# Altium schematic symbol library ARCOM_OpAmp.SchLib: 22 symbols
Pins are listed as number, name and electrical type; pins without a type are passive.

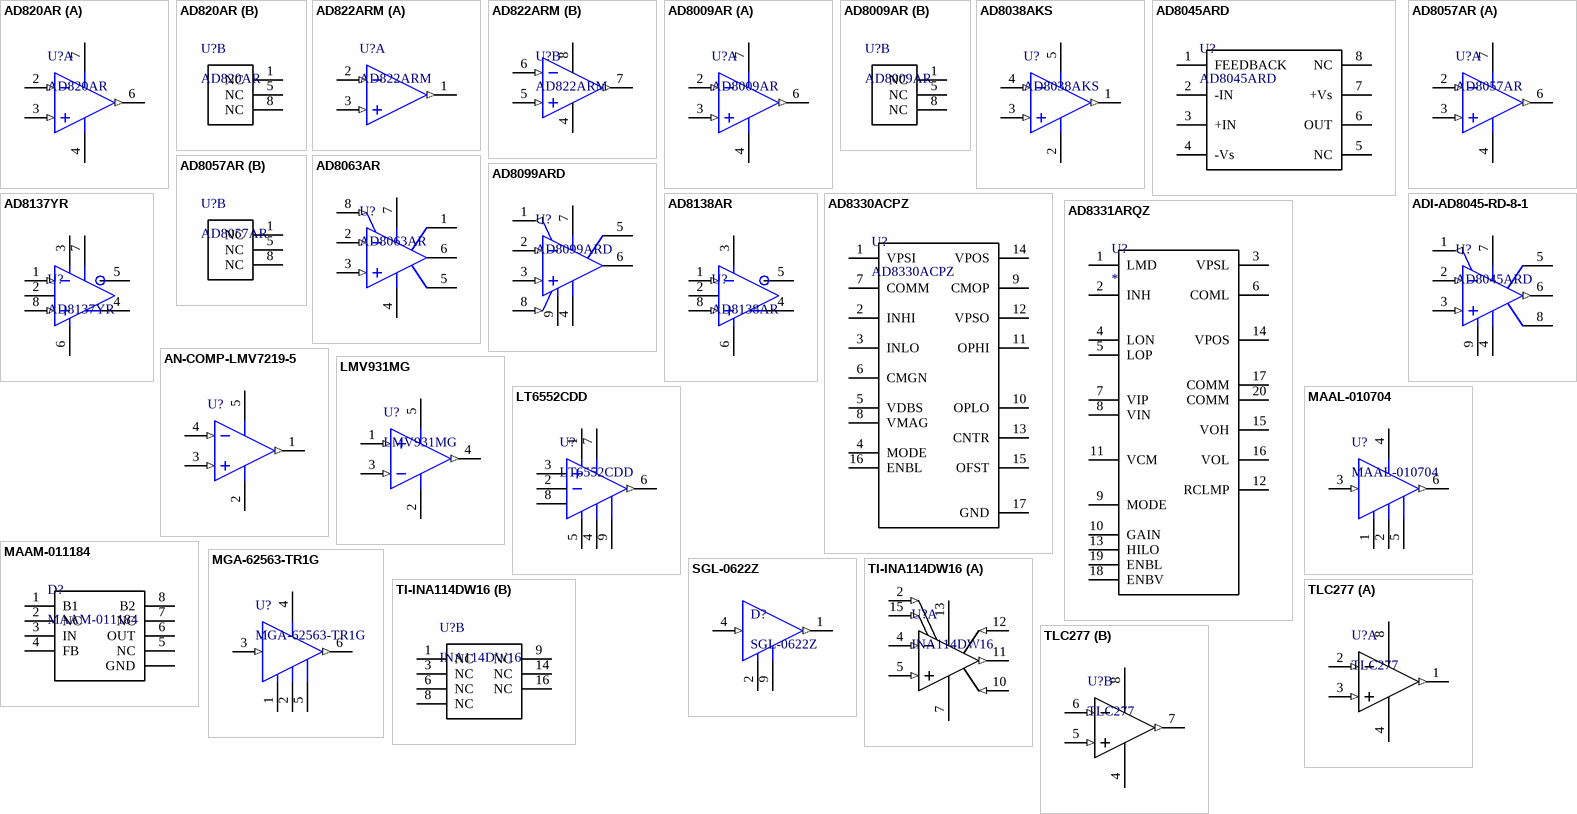
[diagram p0: symbols AD820AR to TLC277]

## AD820AR
designator U?
Single-Supply, Rail-to-Rail, Low Power, FET Input Op Amp; Manufacturer: Analog Devices; ComponentLink1Description: Manufacturer; ComponentLink1URL: http://www.analog.com/; ComponentLink2Description: Datasheet; ComponentLink2URL: http://www.analog.com/media/en/technical-documentation/data-sheets/AD820.pdf; Manufacturer P/N: AD820AR; Part: AD820AR
footprint SOIC_8_1.27_L (SOIC, 8-Leads, Body 4.89x3.9mm, Pitch 1.27mm, IPC High Density)
footprint SOIC_8_1.27_M (SOIC, 8-Leads, Body 4.89x3.9mm, Pitch 1.27mm, IPC Low Density)
footprint SOIC_8_1.27_N (SOIC, 8-Leads, Body 4.89x3.9mm, Pitch 1.27mm, IPC Medium Density)
part A pins: 2 -IN (in), 3 +IN (in), 4 -VS (power), 6 VOUT (out), 7 +VS (power)
part B pins: 1 NC, 5 NC, 8 NC

## AD822ARM
designator U?
Single-Supply, Rail-to-Rail, Low Power, FET Input Op Amp; Manufacturer: Analog Devices; ComponentLink1Description: Manufacturer; ComponentLink1URL: http://www.analog.com/; ComponentLink2Description: Datasheet; ComponentLink2URL: http://www.analog.com/media/en/technical-documentation/data-sheets/AD822.pdf; Manufacturer P/N: AD822ARM; Part: AD822ARM
footprint ADI-RM-8_L (SOP, 8-Leads, Body 3x3mm, Pitch 0.65mm, IPC High Density)
footprint ADI-RM-8_M (SOP, 8-Leads, Body 3x3mm, Pitch 0.65mm, IPC Low Density)
footprint ADI-RM-8_N (SOP, 8-Leads, Body 3x3mm, Pitch 0.65mm, IPC Medium Density)
part A pins: 1 VOUT1 (out), 2 -IN1 (in), 3 +IN1 (in)
part B pins: 4 V- (power), 5 +IN2 (in), 6 -IN2 (in), 7 VOUT2 (out), 8 V+ (power)

## AD8009AR
designator U?
1GHz Low Distortion Op Amplifier; Manufacturer: Analog Devices; ComponentLink1Description: Manufacturer; ComponentLink1URL: http://www.analog.com/; ComponentLink2Description: Datasheet; ComponentLink2URL: http://www.analog.com/media/en/technical-documentation/data-sheets/AD8009.pdf; Manufacturer P/N: AD8009AR; Part: AD8009AR
footprint SOIC_8_1.27_L (SOIC, 8-Leads, Body 4.89x3.9mm, Pitch 1.27mm, IPC High Density)
footprint SOIC_8_1.27_M (SOIC, 8-Leads, Body 4.89x3.9mm, Pitch 1.27mm, IPC Low Density)
footprint SOIC_8_1.27_N (SOIC, 8-Leads, Body 4.89x3.9mm, Pitch 1.27mm, IPC Medium Density)
part A pins: 2 -IN (in), 3 +IN (in), 4 -VS (power), 6 OUT (out), 7 +VS (power)
part B pins: 1 NC, 5 NC, 8 NC

## AD8038AKS
designator U?
Low Power, 350MHz Voltage Feedback Amplifier; Manufacturer: Analog Devices; Manufacturer P/N: AD8038AKSZ-REEL; ComponentLink1Description: Manufacturer; ComponentLink1URL: http://www.analog.com; ComponentLink2Description: Datasheet; ComponentLink2URL: http://www.analog.com/media/en/technical-documentation/data-sheets/AD8038_8039.pdf; Part: AD8038AKS
footprint ADI-KS-5_L (SOT23, 5-Leads, Body 2x1.25mm, Pitch 0.65mm, IPC High Density)
footprint ADI-KS-5_M (SOT23, 5-Leads, Body 2x1.25mm, Pitch 0.65mm, IPC Low Density)
footprint ADI-KS-5_N (SOT23, 5-Leads, Body 2x1.25mm, Pitch 0.65mm, IPC Medium Density)
pins: 1 VOUT (out), 2 -VS (power), 3 +IN (in), 4 -IN (in), 5 +VS (power)

## AD8045ARD
designator U?
Ultralow Distortion, High Speed Op Amp; Manufacturer: Analog Devices; ComponentLink1Description: Manufacturer; ComponentLink1URL: http://www.analog.com/; ComponentLink2Description: Datasheet; ComponentLink2URL: http://www.analog.com/media/en/technical-documentation/data-sheets/AD8045.pdf; Manufacturer P/N: AD8045ARD; part: AD8045ARD; type: Chip
pins: 1 FEEDBACK, 2 -IN, 3 +IN, 4 -Vs, 5 NC, 6 OUT, 7 +Vs, 8 NC

## AD8057AR
designator U?
Low Cost, High Performance  Voltage Feedback, 325 MHz Amplifier; Manufacturer: Analog Devices; ComponentLink1Description: Manufacturer; ComponentLink1URL: http://www.analog.com; ComponentLink2Description: Datasheet; ComponentLink2URL: http://www.analog.com/media/en/technical-documentation/data-sheets/AD8057_8058.pdf; Manufacturer P/N: AD8057AR; Part: AD8057AR
footprint SOIC_8_1.27_L (SOIC, 8-Leads, Body 4.89x3.9mm, Pitch 1.27mm, IPC High Density)
footprint SOIC_8_1.27_M (SOIC, 8-Leads, Body 4.89x3.9mm, Pitch 1.27mm, IPC Low Density)
footprint SOIC_8_1.27_N (SOIC, 8-Leads, Body 4.89x3.9mm, Pitch 1.27mm, IPC Medium Density)
part A pins: 2 -IN (in), 3 +IN (in), 4 -VS (power), 6 VOUT (out), 7 +VS (power)
part B pins: 1 NC, 5 NC, 8 NC

## AD8063AR
designator U?
Low Cost, 300 MHz  Rail-to-Rail Amplifiers; Manufacturer: Analog Devices; Manufacturer P/N: AD8063ARZ; ComponentLink1Description: Manufacturer; ComponentLink1URL: http://www.analog.com/; ComponentLink2Description: Datasheet; ComponentLink2URL: http://www.analog.com/media/en/technical-documentation/data-sheets/AD8061_8062_8063.pdf; Part: AD8063AR
footprint SOIC_8_1.27_L (SOIC, 8-Leads, Body 4.89x3.9mm, Pitch 1.27mm, IPC High Density)
footprint SOIC_8_1.27_M (SOIC, 8-Leads, Body 4.89x3.9mm, Pitch 1.27mm, IPC Low Density)
footprint SOIC_8_1.27_N (SOIC, 8-Leads, Body 4.89x3.9mm, Pitch 1.27mm, IPC Medium Density)
pins: 1 NC, 2 -IN (in), 3 +IN (in), 4 -VS (power), 5 NC, 6 VOUT (hiz), 7 +VS (power), 8 ~{DISABLE} (in)

## AD8099ARD
designator U?
Ultralow Distortion, High Speed Op Amp; Manufacturer: Analog Devices; ComponentLink1Description: Manufacturer; ComponentLink1URL: http://www.analog.com/; ComponentLink2Description: Datasheet; ComponentLink2URL: http://www.analog.com/media/en/technical-documentation/data-sheets/AD8099.pdf; Manufacturer P/N: AD8099ARD; Part: AD8099ARD
footprint SOIC_8_1.27_L (SOIC, 8-Leads, Body 4.89x3.9mm, Pitch 1.27mm, IPC High Density)
footprint SOIC_8_1.27_M (SOIC, 8-Leads, Body 4.89x3.9mm, Pitch 1.27mm, IPC Low Density)
footprint SOIC_8_1.27_N (SOIC, 8-Leads, Body 4.89x3.9mm, Pitch 1.27mm, IPC Medium Density)
pins: 1 FEEDBACK (out), 2 -IN (in), 3 +IN (in), 4 -VS (power), 5 CC, 6 VOUT (hiz), 7 +VS (power), 8 ~{DISABLE} (in), 9 EP

## AD8137YR
designator U?
Low Cost, Low Power,  Differential ADC Driver; Manufacturer: Analog Devices; ComponentLink1Description: Manufacturer; ComponentLink1URL: http://www.analog.com/; ComponentLink2Description: Datasheet; ComponentLink2URL: http://www.analog.com/media/en/technical-documentation/data-sheets/AD8137.pdf; Manufacturer P/N: AD8137YR; Part: AD8137YR
footprint SOIC_8_1.27_L (SOIC, 8-Leads, Body 4.89x3.9mm, Pitch 1.27mm, IPC High Density)
footprint SOIC_8_1.27_M (SOIC, 8-Leads, Body 4.89x3.9mm, Pitch 1.27mm, IPC Low Density)
footprint SOIC_8_1.27_N (SOIC, 8-Leads, Body 4.89x3.9mm, Pitch 1.27mm, IPC Medium Density)
pins: 1 -IN (in), 2 Vocm, 3 +VS (power), 4 +OUT, 5 -OUT, 6 -VS (power), 7 ~{PD} (power), 8 +IN (in)

## AD8138AR
designator U?
Low Distortion  Differential ADC Driver; Manufacturer: Analog Devices; ComponentLink1Description: Manufacturer; ComponentLink1URL: http://www.analog.com/; ComponentLink2Description: Datasheet; ComponentLink2URL: http://www.analog.com/media/en/technical-documentation/data-sheets/AD8138.pdf; Manufacturer P/N: AD8138AR; Part: AD8138AR
footprint SOIC_8_1.27_L (SOIC, 8-Leads, Body 4.89x3.9mm, Pitch 1.27mm, IPC High Density)
footprint SOIC_8_1.27_M (SOIC, 8-Leads, Body 4.89x3.9mm, Pitch 1.27mm, IPC Low Density)
footprint SOIC_8_1.27_N (SOIC, 8-Leads, Body 4.89x3.9mm, Pitch 1.27mm, IPC Medium Density)
pins: 1 -IN (in), 2 Vocm, 3 +VS (power), 4 +OUT, 5 -OUT, 6 -VS (power), 8 +IN (in)

## AD8330ACPZ
designator U?
Low Cost, DC to 150 MHz,  Variable Gain Amplifier; ComponentLink1Description: *; ComponentLink1URL: *; ComponentLink2Description: *; ComponentLink2URL: *; Family: *; Manufacturer: *; Manufacturer P/N: *; Part: *
footprint LFCSP(CP-16-27)
pins: 1 VPSI, 2 INHI, 3 INLO, 4 MODE, 5 VDBS, 6 CMGN, 7 COMM, 8 VMAG, 9 CMOP, 10 OPLO, 11 OPHI, 12 VPSO, 13 CNTR, 14 VPOS, 15 OFST, 16 ENBL, 17 GND

## AD8331ARQZ
designator U?
Ultralow VGAs with Preamplifier and Programmable Rin; Manufacturer: Analog Devices; Manufacturer P/N: AD8331ARQZ; ComponentLink1Description: *; ComponentLink1URL: *; ComponentLink2Description: *; ComponentLink2URL: *; Family: Chip; Part: AD8331ARQZ
footprint QSOP-20
pins: 1 LMD, 2 INH, 3 VPSL, 4 LON, 5 LOP, 6 COML, 7 VIP, 8 VIN, 9 MODE, 10 GAIN, 11 VCM, 12 RCLMP, 13 HILO, 14 VPOS, 15 VOH, 16 VOL, 17 COMM, 18 ENBV, 19 ENBL, 20 COMM

## ADI-AD8045-RD-8-1
designator U?, comment AD8045ARD
Single Channel Ultra Low Distortion  Operational Amplifier, 1 GHz BW, 1.35 KV/us SR, Industrial, 8-pin SOIC (RD-8-1), Tube; Manufacturer: Analog Devices; ComponentLink1Description: Manufacturer; ComponentLink1URL: http://www.analog.com/; ComponentLink2Description: Datasheet; ComponentLink2URL: http://www.analog.com/media/en/technical-documentation/data-sheets/AD8045.pdf; Manufacturer P/N: AD8045ARD; Part: AD8045ARD; type: chip
footprint ADI-RD-8-1_L (SOIC, 8-Leads, Body 4.9x3.9mm, Pitch 1.27mm, Thermal Pad 2.29x2.29mm, IPC High Density)
footprint ADI-RD-8-1_M (SOIC, 8-Leads, Body 4.9x3.9mm, Pitch 1.27mm, Thermal Pad 2.29x2.29mm, IPC Low Density)
footprint ADI-RD-8-1_N (SOIC, 8-Leads, Body 4.9x3.9mm, Pitch 1.27mm, Thermal Pad 2.29x2.29mm, IPC Medium Density)
pins: 1 FEEDBACK (out) "Feedback Pin", 2 -IN (in) "Inverting Input", 3 +IN (in) "Noninverting Input", 4 -VS (power) "Negative Supply", 5 NC, 6 OUT (out) "Output", 7 +VS (power) "Positive Supply", 8 NC, 9 EP (power) "Must Be Connected to -VS or Electrically Isolated"

## AN-COMP-LMV7219-5
designator U?
footprint DCK0005A_N (SOT23, 5-Leads, Body 2.15x1.4mm, Pitch 0.65mm, IPC Medium Density)
pins: 1 OUT (out), 2 V- (power), 3 IN+ (in), 4 IN- (in), 5 V+ (power)

## LMV931MG
designator U?
Low power Op Amp; Manufacturer: National Semiconductor; ComponentLink1Description: Manufacturer; ComponentLink1URL: http://www.national.com; ComponentLink2Description: Datasheet; ComponentLink2URL: http://www.national.com/ds/LM/LMV931.pdf; Part: LMV931MG; Manufacturer P/N: LMV931MG
footprint ONSC-SC70-5-419A-02_K_L (SOT23, 5-Leads, Body 2.2x1.35mm, Pitch 0.65mm, IPC High Density)
footprint ONSC-SC70-5-419A-02_K_M (SOT23, 5-Leads, Body 2.2x1.35mm, Pitch 0.65mm, IPC Low Density)
footprint ONSC-SC70-5-419A-02_K_N (SOT23, 5-Leads, Body 2.2x1.35mm, Pitch 0.65mm, IPC Medium Density)
pins: 1 IN+ (in), 2 VEE (power), 3 IN- (in), 4 OUT (out), 5 VCC (power)

## LT6552CDD
designator U?
3.3V Single Supply Video Difference Amplifier; Manufacturer: Analog Devices; ComponentLink1Description: Manufacturer; ComponentLink1URL: http://www.analog.com/; ComponentLink2Description: Datasheet; ComponentLink2URL: https://www.mouser.com/datasheet/2/609/6552f-3123818.pdf; Part: LT6552CDD; Manufacturer P/N: LT6552CDD
footprint DFN-8_3x3
pins: 1 Ref, 2 In-, 3 In+, 4 V- (power), 5 ~{SHDN}, 6 out (out), 7 V+ (power), 8 FB, 9 GND (power)

## MAAL-010704
designator U?
Low power Op Amp; Manufacturer: MACOM Technology Solutions Inc.; Manufacturer P/N: MAAL-010704-TR3000; ComponentLink1Description: Manufacturer; ComponentLink1URL: https://www.macom.com; ComponentLink2Description: Datasheet; ComponentLink2URL: https://ru.mouser.com/datasheet/2/249/MAAL-010704-594700.pdf; Part: MAAL-010704
footprint SOT363 (SOT23, 6-Leads, Body 2x1.25 mm, Pitch 0.65 mm)
pins: 1 GND, 2 GND (power), 3 RFin (in), 4 BIAS (power), 5 GND, 6 RFout (out)

## MAAM-011184
designator D?
CATV Return Path Amplifier 5-300MHz; Manufacturer: Macom; ComponentLink1Description: Manufacturer; ComponentLink1URL: www.macom.com; ComponentLink2Description: Datasheet; ComponentLink2URL: cdn.macom.com/datasheets/maam-011184.pdf; Family: OpAmp; Manufacturer P/N: MAAM-011184; Part: MAAM-011184
footprint MAAM
pins: 1 B1, 2 NC, 3 IN, 4 FB, 5 NC, 6 OUT, 7 NC, 8 B2, PAD GND

## MGA-62563-TR1G
designator U?
Obsolete! Low power Op Amp; Manufacturer: Avago Technologies; ComponentLink1Description: Manufacturer; ComponentLink1URL: http://www.avagotech.com/; ComponentLink2Description: Datasheet; ComponentLink2URL: http://www.avagotech.com/docs/AV02-1237EN; Part: MGA-62563-TR1G; Manufacturer P/N: MGA-62563-TR1G
footprint SOT363 (SOT23, 6-Leads, Body 2x1.25 mm, Pitch 0.65 mm)
pins: 1 GND, 2 GND (power), 3 RFin (in), 4 BIAS (power), 5 GND, 6 RFout (out)

## SGL-0622Z
designator D?
5MHz to 4GHz, Low-Noise SiGe HBT MMIC Amplifier; Manufacturer: Qorvo; ComponentLink1Description: Manufacturer; ComponentLink1URL: *; ComponentLink2Description: Datasheet; ComponentLink2URL: *; Family: Chip; Manufacturer P/N: SGL-0622Z; Part: SGL-0622Z
footprint SGL0622Z
pins: 1 OUT (out), 2 GND (power), 4 IN (in), 9 EPAD (power)

## TI-INA114DW16
designator U?, comment INA114DW16
Precision Instrumentation Amplifier; ComponentLink1Description: *; ComponentLink1URL: *; ComponentLink2Description: *; ComponentLink2URL: *; Manufacturer: *; Manufacturer P/N: *; Part: *; Family: *
footprint TI-DW16_L (SOIC, 16-Leads, Body 10.3x7.5mm, Pitch 1.27mm, IPC High Density)
footprint TI-DW16_M (SOIC, 16-Leads, Body 10.3x7.5mm, Pitch 1.27mm, IPC Low Density)
footprint TI-DW16_N (SOIC, 16-Leads, Body 10.3x7.5mm, Pitch 1.27mm, IPC Medium Density)
part A pins: 2 RG (in), 4 VIN- (in), 5 VIN+ (in), 7 V- (power), 10 REF (in), 11 VO (out), 12 FEEDBACK (in), 13 V+ (power), 15 RG (in)
part B pins: 1 NC, 3 NC, 6 NC, 8 NC, 9 NC, 14 NC, 16 NC

## TLC277
designator U?
footprint TI-D8_L (SOIC, 8-Leads, Body 4.9x3.9mm, Pitch 1.27mm, IPC High Density)
footprint TI-D8_M (SOIC, 8-Leads, Body 4.9x3.9mm, Pitch 1.27mm, IPC Low Density)
footprint TI-D8_N (SOIC, 8-Leads, Body 4.9x3.9mm, Pitch 1.27mm, IPC Medium Density)
pins on every part: 4 GND (power), 8 VDD (power)
part A pins: 1 OUT1 (out), 2 IN1- (in), 3 IN1+ (in)
part B pins: 5 IN2+ (in), 6 IN2- (in), 7 OUT2 (out)